# Altium footprint library Controller_Library.PcbLib: 3 footprints
Each footprint in its own frame and in the unit in brackets; x right, y up, seen from the top. Pads: shape width x height; smd on the part's side, far side on the other; paste and mask are expansions set on the pad; w line width, h text height; cw(c..) or ccw(c..) is an arc to the next point about the centre after c.
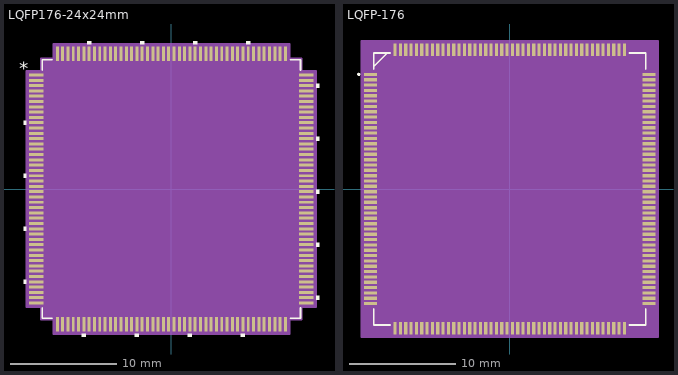
[diagram p0: the footprints below, top view; thin cyan lines are the x and y axes]

## LQFP176-24x24mm [mil]
pads (176):
  rect 53.5x11 smd paste+0 mask+0: 1(-501.25,423.23) 2(-501.25,403.54) 3(-501.25,383.86) 4(-501.25,364.17) 5(-501.25,344.49) 6(-501.25,324.8) 7(-501.25,305.12) 8(-501.25,285.43) 9(-501.25,265.75) 10(-501.25,246.06) 11(-501.25,226.38) 12(-501.25,206.69) 13(-501.25,187.01) 14(-501.25,167.32) 15(-501.25,147.64) 16(-501.25,127.95) 17(-501.25,108.27) 18(-501.25,88.58) 19(-501.25,68.9) 20(-501.25,49.21) 21(-501.25,29.53) 22(-501.25,9.84) 23(-501.25,-9.84) 24(-501.25,-29.53) 25(-501.25,-49.21) 26(-501.25,-68.9) 27(-501.25,-88.58) 28(-501.25,-108.27) 29(-501.25,-127.95) 30(-501.25,-147.64) 31(-501.25,-167.32) 32(-501.25,-187.01) 33(-501.25,-206.69) 34(-501.25,-226.38) 35(-501.25,-246.06) 36(-501.25,-265.75) 37(-501.25,-285.43) 38(-501.25,-305.12) 39(-501.25,-324.8) 40(-501.25,-344.49) 41(-501.25,-364.17) 42(-501.25,-383.86) 43(-501.25,-403.54) 44(-501.25,-423.23) 89(501.25,-423.23) 90(501.25,-403.54) 91(501.25,-383.86) 92(501.25,-364.17) 93(501.25,-344.49) 94(501.25,-324.8) 95(501.25,-305.12) 96(501.25,-285.43) 97(501.25,-265.75) 98(501.25,-246.06) 99(501.25,-226.38) 100(501.25,-206.69) 101(501.25,-187.01) 102(501.25,-167.32) 103(501.25,-147.64) 104(501.25,-127.95) 105(501.25,-108.27) 106(501.25,-88.58) 107(501.25,-68.9) 108(501.25,-49.21) 109(501.25,-29.53) 110(501.25,-9.84) 111(501.25,9.84) 112(501.25,29.53) 113(501.25,49.21) 114(501.25,68.9) 115(501.25,88.58) 116(501.25,108.27) 117(501.25,127.95) 118(501.25,147.64) 119(501.25,167.32) 120(501.25,187.01) 121(501.25,206.69) 122(501.25,226.38) 123(501.25,246.06) 124(501.25,265.75) 125(501.25,285.43) 126(501.25,305.12) 127(501.25,324.8) 128(501.25,344.49) 129(501.25,364.17) 130(501.25,383.86) 131(501.25,403.54) 132(501.25,423.23)
  rect 11x53.5 smd paste+0 mask+0: 45(-423.23,-501.25) 46(-403.54,-501.25) 47(-383.86,-501.25) 48(-364.17,-501.25) 49(-344.49,-501.25) 50(-324.8,-501.25) 51(-305.12,-501.25) 52(-285.43,-501.25) 53(-265.75,-501.25) 54(-246.06,-501.25) 55(-226.38,-501.25) 56(-206.69,-501.25) 57(-187.01,-501.25) 58(-167.32,-501.25) 59(-147.64,-501.25) 60(-127.95,-501.25) 61(-108.27,-501.25) 62(-88.58,-501.25) 63(-68.9,-501.25) 64(-49.21,-501.25) 65(-29.53,-501.25) 66(-9.84,-501.25) 67(9.84,-501.25) 68(29.53,-501.25) 69(49.21,-501.25) 70(68.9,-501.25) 71(88.58,-501.25) 72(108.27,-501.25) 73(127.95,-501.25) 74(147.64,-501.25) 75(167.32,-501.25) 76(187.01,-501.25) 77(206.69,-501.25) 78(226.38,-501.25) 79(246.06,-501.25) 80(265.75,-501.25) 81(285.43,-501.25) 82(305.12,-501.25) 83(324.8,-501.25) 84(344.49,-501.25) 85(364.17,-501.25) 86(383.86,-501.25) 87(403.54,-501.25) 88(423.23,-501.25) 133(423.23,501.25) 134(403.54,501.25) 135(383.86,501.25) 136(364.17,501.25) 137(344.49,501.25) 138(324.8,501.25) 139(305.12,501.25) 140(285.43,501.25) 141(265.75,501.25) 142(246.06,501.25) 143(226.38,501.25) 144(206.69,501.25) 145(187.01,501.25) 146(167.32,501.25) 147(147.64,501.25) 148(127.95,501.25) 149(108.27,501.25) 150(88.58,501.25) 151(68.9,501.25) 152(49.21,501.25) 153(29.53,501.25) 154(9.84,501.25) 155(-9.84,501.25) 156(-29.53,501.25) 157(-49.21,501.25) 158(-68.9,501.25) 159(-88.58,501.25) 160(-108.27,501.25) 161(-127.95,501.25) 162(-147.64,501.25) 163(-167.32,501.25) 164(-187.01,501.25) 165(-206.69,501.25) 166(-226.38,501.25) 167(-246.06,501.25) 168(-265.75,501.25) 169(-285.43,501.25) 170(-305.12,501.25) 171(-324.8,501.25) 172(-344.49,501.25) 173(-364.17,501.25) 174(-383.86,501.25) 175(-403.54,501.25) 176(-423.23,501.25)
Top Overlay:
  region: -538,253.56 -548,253.56 -548,238.56 -538,238.56
  region: -538,56.71 -548,56.71 -548,41.71 -538,41.71
  region: -538,-140.14 -548,-140.14 -548,-155.14 -538,-155.14
  region: -538,-336.99 -548,-336.99 -548,-351.99 -538,-351.99
  region: -317.3,-538 -332.3,-538 -332.3,-548 -317.3,-548
  region: -120.45,-538 -135.45,-538 -135.45,-548 -120.45,-548
  region: 76.4,-538 61.4,-538 61.4,-548 76.4,-548
  region: 273.25,-538 258.25,-538 258.25,-548 273.25,-548
  region: 538,-396.04 548,-396.04 548,-411.04 538,-411.04
  region: 538,-199.19 548,-199.19 548,-214.19 538,-214.19
  region: 538,-2.34 548,-2.34 548,-17.34 538,-17.34
  region: 538,194.51 548,194.51 548,179.51 538,179.51
  region: 538,391.36 548,391.36 548,376.36 538,376.36
  region: 292.93,538 277.93,538 277.93,548 292.93,548
  region: 96.08,538 81.08,538 81.08,548 96.08,548
  region: -100.77,538 -115.77,538 -115.77,548 -100.77,548
  region: -297.62,538 -312.62,538 -312.62,548 -297.62,548
  lines w6: -479.5,-441.83 -479.5,-479.5 -441.83,-479.5 ; -479.5,441.83 -479.5,479.5 -441.83,479.5 ; 441.83,-479.5 479.5,-479.5 479.5,-441.83 ; 441.83,479.5 479.5,479.5 479.5,441.83
  text "*" at -565.5,423.07 h50
Mechanical 13:
  drawing of 709 lines, arcs and shapes, not listed
  text "*" at -472,408.07 h50
Mechanical 15:
  region: -438.73,-484.5 -484.5,-484.5 -484.5,-438.73 -538,-438.73 -538,438.73 -484.5,438.73 -484.5,484.5 -438.73,484.5 -438.73,538 438.73,538 438.73,484.5 484.5,484.5 484.5,438.73 538,438.73 538,-438.73 484.5,-438.73 484.5,-484.5 438.73,-484.5 438.73,-538 -438.73,-538
  lines w6: -538,-438.73 -484.5,-438.73 -484.5,-484.5 -438.73,-484.5 -438.73,-538 438.73,-538 438.73,-484.5 484.5,-484.5 484.5,-438.73 538,-438.73 538,438.73 484.5,438.73 484.5,484.5 438.73,484.5 438.73,538 -438.73,538 -438.73,484.5 -484.5,484.5 -484.5,438.73 -538,438.73 -538,-438.73
3D body "LQFP176-24x24mm.step": height 63.11, standoff 0, extent -514.02,-514.02 514.02,514.02

## LQFP-176 [mm]
pads (176):
  rect 1.2x0.3 smd paste-0.6 mask-0.597: 1(-13.05,10.75) 2(-13.05,10.25) 3(-13.05,9.75) 4(-13.05,9.25) 5(-13.05,8.75) 6(-13.05,8.25) 7(-13.05,7.75) 8(-13.05,7.25) 9(-13.05,6.75) 10(-13.05,6.25) 11(-13.05,5.75) 12(-13.05,5.25) 13(-13.05,4.75) 14(-13.05,4.25) 15(-13.05,3.75) 16(-13.05,3.25) 17(-13.05,2.75) 18(-13.05,2.25) 19(-13.05,1.75) 20(-13.05,1.25) 21(-13.05,0.75) 22(-13.05,0.25) 23(-13.05,-0.25) 24(-13.05,-0.75) 25(-13.05,-1.25) 26(-13.05,-1.75) 27(-13.05,-2.25) 28(-13.05,-2.75) 29(-13.05,-3.25) 30(-13.05,-3.75) 31(-13.05,-4.25) 32(-13.05,-4.75) 33(-13.05,-5.25) 34(-13.05,-5.75) 35(-13.05,-6.25) 36(-13.05,-6.75) 37(-13.05,-7.25) 38(-13.05,-7.75) 39(-13.05,-8.25) 40(-13.05,-8.75) 41(-13.05,-9.25) 42(-13.05,-9.75) 43(-13.05,-10.25) 44(-13.05,-10.75) 89(13.05,-10.75) 90(13.05,-10.25) 91(13.05,-9.75) 92(13.05,-9.25) 93(13.05,-8.75) 94(13.05,-8.25) 95(13.05,-7.75) 96(13.05,-7.25) 97(13.05,-6.75) 98(13.05,-6.25) 99(13.05,-5.75) 100(13.05,-5.25) 101(13.05,-4.75) 102(13.05,-4.25) 103(13.05,-3.75) 104(13.05,-3.25) 105(13.05,-2.75) 106(13.05,-2.25) 107(13.05,-1.75) 108(13.05,-1.25) 109(13.05,-0.75) 110(13.05,-0.25) 111(13.05,0.25) 112(13.05,0.75) 113(13.05,1.25) 114(13.05,1.75) 115(13.05,2.25) 116(13.05,2.75) 117(13.05,3.25) 118(13.05,3.75) 119(13.05,4.25) 120(13.05,4.75) 121(13.05,5.25) 122(13.05,5.75) 123(13.05,6.25) 124(13.05,6.75) 125(13.05,7.25) 126(13.05,7.75) 127(13.05,8.25) 128(13.05,8.75) 129(13.05,9.25) 130(13.05,9.75) 131(13.05,10.25) 132(13.05,10.75)
  rect 0.3x1.2 smd paste-0.6 mask-0.597: 45(-10.75,-13.05) 46(-10.25,-13.05) 47(-9.75,-13.05) 48(-9.25,-13.05) 49(-8.75,-13.05) 50(-8.25,-13.05) 51(-7.75,-13.05) 52(-7.25,-13.05) 53(-6.75,-13.05) 54(-6.25,-13.05) 55(-5.75,-13.05) 56(-5.25,-13.05) 57(-4.75,-13.05) 58(-4.25,-13.05) 59(-3.75,-13.05) 60(-3.25,-13.05) 61(-2.75,-13.05) 62(-2.25,-13.05) 63(-1.75,-13.05) 64(-1.25,-13.05) 65(-0.75,-13.05) 66(-0.25,-13.05) 67(0.25,-13.05) 68(0.75,-13.05) 69(1.25,-13.05) 70(1.75,-13.05) 71(2.25,-13.05) 72(2.75,-13.05) 73(3.25,-13.05) 74(3.75,-13.05) 75(4.25,-13.05) 76(4.75,-13.05) 77(5.25,-13.05) 78(5.75,-13.05) 79(6.25,-13.05) 80(6.75,-13.05) 81(7.25,-13.05) 82(7.75,-13.05) 83(8.25,-13.05) 84(8.75,-13.05) 85(9.25,-13.05) 86(9.75,-13.05) 87(10.25,-13.05) 88(10.75,-13.05) 133(10.75,13.05) 134(10.25,13.05) 135(9.75,13.05) 136(9.25,13.05) 137(8.75,13.05) 138(8.25,13.05) 139(7.75,13.05) 140(7.25,13.05) 141(6.75,13.05) 142(6.25,13.05) 143(5.75,13.05) 144(5.25,13.05) 145(4.75,13.05) 146(4.25,13.05) 147(3.75,13.05) 148(3.25,13.05) 149(2.75,13.05) 150(2.25,13.05) 151(1.75,13.05) 152(1.25,13.05) 153(0.75,13.05) 154(0.25,13.05) 155(-0.25,13.05) 156(-0.75,13.05) 157(-1.25,13.05) 158(-1.75,13.05) 159(-2.25,13.05) 160(-2.75,13.05) 161(-3.25,13.05) 162(-3.75,13.05) 163(-4.25,13.05) 164(-4.75,13.05) 165(-5.25,13.05) 166(-5.75,13.05) 167(-6.25,13.05) 168(-6.75,13.05) 169(-7.25,13.05) 170(-7.75,13.05) 171(-8.25,13.05) 172(-8.75,13.05) 173(-9.25,13.05) 174(-9.75,13.05) 175(-10.25,13.05) 176(-10.75,13.05)
Top Overlay:
  circle w0.152: c-14.154,10.75 r0.076
  lines w0.152: -12.75,-11.233 -12.75,-12.75 -11.233,-12.75 ; -12.75,11.233 -12.75,12.75 -11.233,12.75 ; -12.75,11.48 -11.48,12.75 ; 11.233,-12.75 12.75,-12.75 12.75,-11.233 ; 11.233,12.75 12.75,12.75 12.75,11.233
Mechanical 13:
  circle w0: c-14.154,10.75 r0.076
  lines w0.025: -12.75,11.48 -11.48,12.75 ; -12.75,-12.75 -12.75,12.75 12.75,12.75 12.75,-12.75 -12.75,-12.75
Mechanical 15:
  region: 13.904,-13.904 -13.904,-13.904 -13.904,13.904 13.904,13.904
  lines w0.152: -13.904,-13.904 13.904,-13.904 13.904,13.904 -13.904,13.904 -13.904,-13.904
3D body "LQFP-176.step": height 1.65, standoff 0, extent -13.3,-13.3 13.3,13.3

## PCBComponent_1 [mm]